# EAGLE library part MOTOR-DRIVER-DRV8830 (library FlashPCB_ICs)
DRV8830 - Bipolar Motor Driver Power MOSFET I2C 10-VSON Technical Specifications: H-Bridge Voltage-Controller Motor Driver Suitable for DC Brushless Motor / one winding of Stepper Motor Serial I2C Interface Compatible Supply Voltage: 2.75V~6.8V Component Search: DRV8830 <https://www.flashpcb.com/components> Datasheet: DRV8830 Low-Voltage Motor Driver With Serial Interface datasheet (Rev. G) <https://www.ti.com/lit/ds/symlink/drv8830.pdf?HQS=dis-dk-null-digikeymode-dsf-pf-null-wwe&ts=1682351674652&ref_url=https%253A%252F%252Fwww.ti.com%252Fgeneral%252Fdocs%252Fsuppproductinfo.tsp%253FdistId%253D10%2526gotoUrl%253Dhttps%253A%252F%252Fwww.ti.com%252Flit%252Fgpn%252Fdrv8830>
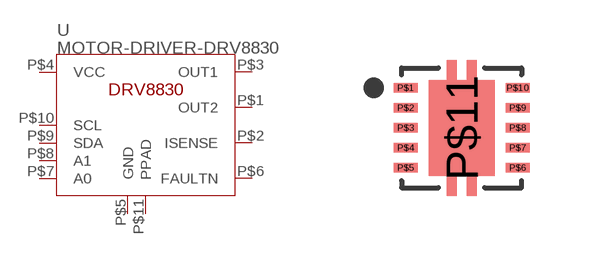
[diagram p61: symbol with the pads of 10-VSON(3X3); footprint 10-VSON(3X3)]

Designator prefix U

## MOTOR-DRIVER-DRV8830DRC  [10-VSON(3X3)]
P$1  OUT2
P$2  ISENSE
P$3  OUT1
P$4  VCC
P$5  GND
P$6  FAULTN
P$7  A0
P$8  A1
P$9  SDA
P$10  SCL
P$11  PPAD

## Footprint 10-VSON(3X3) (pad centres in mm)
smd 0.6 x 0.24: P$1 -1.4,1; P$2 -1.4,0.5; P$3 -1.4,0; P$4 -1.4,-0.5; P$5 -1.4,-1; P$6 1.4,-1; P$7 1.4,-0.5; P$8 1.4,0; P$9 1.4,0.5; P$10 1.4,1
smd 1.65 x 2.4: P$11 0,0